# Altium schematic symbol library CX240D5.SchLib: 1 symbol
Pins are listed as number, name and electrical type; pins without a type are passive.

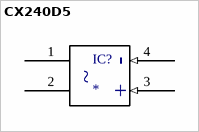
[diagram p0: symbol ‎CX240D5‎ ]

## ‎CX240D5‎ 
designator IC?
Solid State Relay
footprint CX240D5
pins: 1 (power), 2 (power), 3 (in), 4 (in)
text: -; ~; +